# Altium integrated library PDQE10-Q24-S3-D.IntLib: 1 symbol
Pins are listed as number, name and electrical type; pins without a type are passive.

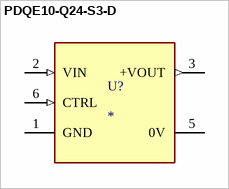
[diagram p0: symbol PDQE10-Q24-S3-D]

## PDQE10-Q24-S3-D
designator U?
MF: {'manufacturer': u'CUI'}; MP: PDQE10-Q24-S3-D; Price: None; Value: *; Availability: Unavailable; Package: None
footprint CONV_PDQE10-Q24-S3-D
pins: 1 GND (power), 2 VIN (in), 3 +VOUT (out), 5 0V (power), 6 CTRL (in)